# EAGLE library part AT32UC3B1* (library ic-ATMEL)
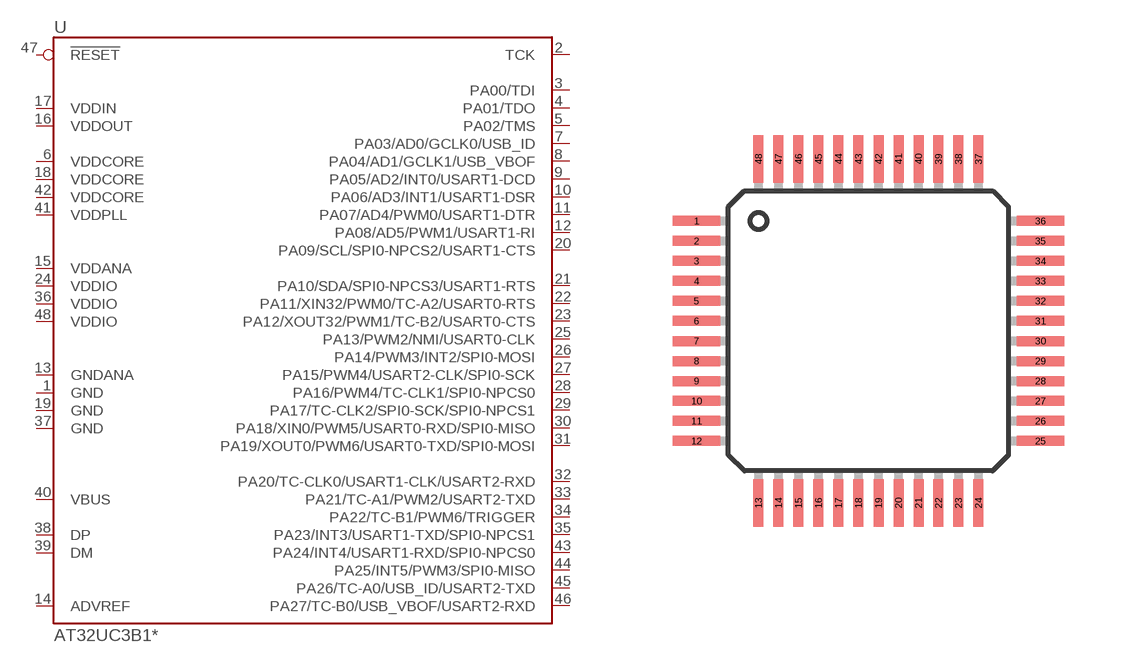
[diagram p7: symbol with the pads of QFP48-0.5; footprint QFP48-0.5]

Designator prefix U

## AT32UC3B1128-AU, AT32UC3B1256-AU, AT32UC3B1512-AU, AT32UC3B164-AU  [QFP48-0.5]
1  GND
2  TCK
3  PA00/TDI
4  PA01/TDO
5  PA02/TMS
6  VDDCORE
7  PA03/AD0/GCLK0/USB_ID
8  PA04/AD1/GCLK1/USB_VBOF
9  PA05/AD2/INT0/USART1-DCD
10  PA06/AD3/INT1/USART1-DSR
11  PA07/AD4/PWM0/USART1-DTR
12  PA08/AD5/PWM1/USART1-RI
13  GNDANA
14  ADVREF
15  VDDANA
16  VDDOUT
17  VDDIN
18  VDDCORE
19  GND
20  PA09/SCL/SPI0-NPCS2/USART1-CTS
21  PA10/SDA/SPI0-NPCS3/USART1-RTS
22  PA11/XIN32/PWM0/TC-A2/USART0-RTS
23  PA12/XOUT32/PWM1/TC-B2/USART0-CTS
24  VDDIO
25  PA13/PWM2/NMI/USART0-CLK
26  PA14/PWM3/INT2/SPI0-MOSI
27  PA15/PWM4/USART2-CLK/SPI0-SCK
28  PA16/PWM4/TC-CLK1/SPI0-NPCS0
29  PA17/TC-CLK2/SPI0-SCK/SPI0-NPCS1
30  PA18/XIN0/PWM5/USART0-RXD/SPI0-MISO
31  PA19/XOUT0/PWM6/USART0-TXD/SPI0-MOSI
32  PA20/TC-CLK0/USART1-CLK/USART2-RXD
33  PA21/TC-A1/PWM2/USART2-TXD
34  PA22/TC-B1/PWM6/TRIGGER
35  PA23/INT3/USART1-TXD/SPI0-NPCS1
36  VDDIO
37  GND
38  DP
39  DM
40  VBUS
41  VDDPLL
42  VDDCORE
43  PA24/INT4/USART1-RXD/SPI0-NPCS0
44  PA25/INT5/PWM3/SPI0-MISO
45  PA26/TC-A0/USB_ID/USART2-TXD
46  PA27/TC-B0/USB_VBOF/USART2-RXD
47  !RESET
48  VDDIO

## Footprint QFP48-0.5 (pad centres in mm)
smd 1.2 x 0.25: 1 -4.3,2.75; 2 -4.3,2.25; 3 -4.3,1.75; 4 -4.3,1.25; 5 -4.3,0.75; 6 -4.3,0.25; 7 -4.3,-0.25; 8 -4.3,-0.75; 9 -4.3,-1.25; 10 -4.3,-1.75; 11 -4.3,-2.25; 12 -4.3,-2.75; 25 4.3,-2.75; 26 4.3,-2.25; 27 4.3,-1.75; 28 4.3,-1.25; 29 4.3,-0.75; 30 4.3,-0.25; 31 4.3,0.25; 32 4.3,0.75; 33 4.3,1.25; 34 4.3,1.75; 35 4.3,2.25; 36 4.3,2.75
smd 0.25 x 1.2: 13 -2.75,-4.3; 14 -2.25,-4.3; 15 -1.75,-4.3; 16 -1.25,-4.3; 17 -0.75,-4.3; 18 -0.25,-4.3; 19 0.25,-4.3; 20 0.75,-4.3; 21 1.25,-4.3; 22 1.75,-4.3; 23 2.25,-4.3; 24 2.75,-4.3; 37 2.75,4.3; 38 2.25,4.3; 39 1.75,4.3; 40 1.25,4.3; 41 0.75,4.3; 42 0.25,4.3; 43 -0.25,4.3; 44 -0.75,4.3; 45 -1.25,4.3; 46 -1.75,4.3; 47 -2.25,4.3; 48 -2.75,4.3